# Altium schematic symbol library CL10B105KA8NNNC.SchLib: 2 symbols
Pins are listed as number, name and electrical type; pins without a type are passive.

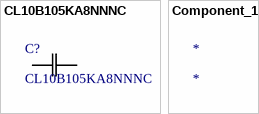
[diagram p0: symbols CL10B105KA8NNNC to Component_1]

## CL10B105KA8NNNC
designator C?
No Description Available; Mfr_Name: Samsung; Type: DEV; Copyright: Copyright (C) 2022 Ultra Librarian. All rights reserved.; Manufacturer_Part_Number: CL10B105KA8NNNC; RefDes: RefDes
footprint CAP_CL10_SAM
pins: 1, 2

## Component_1
designator *